# EAGLE library part 61002418221 (library 61002418221)
Wurth Elektronik WR-PHD Series, Series Number 6100, 2.54mm Pitch 24 Way 1 Row Right Angle PCB Header <http://uk.rs-online.com/largeimages/R8281752-01.jpg> Source: Datasheet <http://katalog.we-online.de/em/datasheet/6100xx18221.pdf>
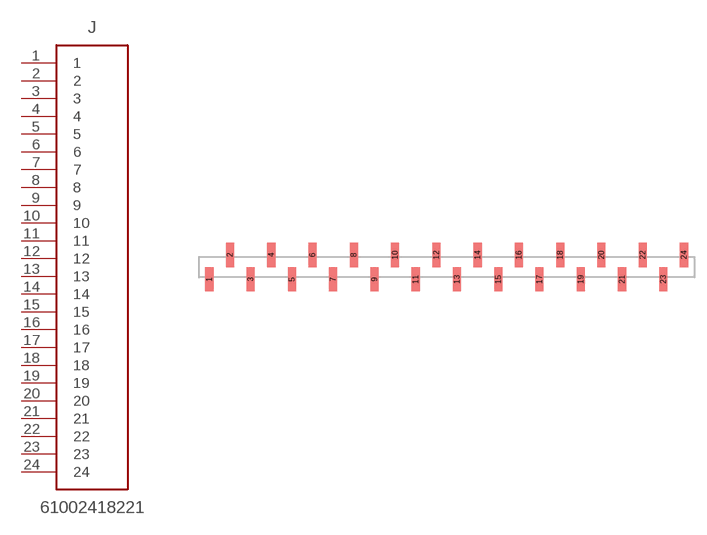
[diagram p0: symbol with the pads of 61002418221; footprint 61002418221]

Designator prefix J

## 61002418221 (Description: Wurth Elektronik WR-PHD Series, Series Number 6100, 2.54mm Pitch 24 Way 1 Row Right Angle PCB Header; Height: mm; Manufacturer_Name: Wrth Elektronik; Manufacturer_Part_Number: 61002418221; RS_Part_Number: 1216841; Supplier_Name: RS)  [61002418221]
1  1  pas
2  2  pas
3  3  pas
4  4  pas
5  5  pas
6  6  pas
7  7  pas
8  8  pas
9  9  pas
10  10  pas
11  11  pas
12  12  pas
13  13  pas
14  14  pas
15  15  pas
16  16  pas
17  17  pas
18  18  pas
19  19  pas
20  20  pas
21  21  pas
22  22  pas
23  23  pas
24  24  pas

## Footprint 61002418221 (pad centres in mm)
61002418221
smd 1 x 3: 1 -5.08,-1.5; 2 -2.54,1.5; 3 0,-1.5; 4 2.54,1.5; 5 5.08,-1.5; 6 7.62,1.5; 7 10.16,-1.5; 8 12.7,1.5; 9 15.24,-1.5; 10 17.78,1.5; 11 20.32,-1.5; 12 22.86,1.5; 13 25.4,-1.5; 14 27.94,1.5; 15 30.48,-1.5; 16 33.02,1.5; 17 35.56,-1.5; 18 38.1,1.5; 19 40.64,-1.5; 20 43.18,1.5; 21 45.72,-1.5; 22 48.26,1.5; 23 50.8,-1.5; 24 53.34,1.5